# EAGLE library part AT24C256C-MAHL-T (library naiLED_eagle)
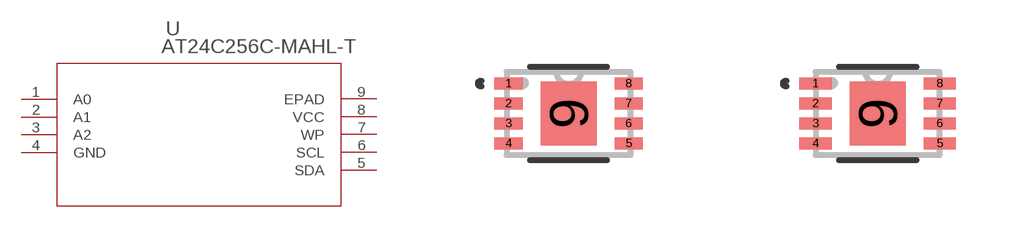
[diagram p3: symbol with the pads of 8MA2; footprints 8MA2, 8MA2-M]

Designator prefix U

## AT24C256C-MAHL-T (MANUFACTURER_PART_NUMBER: at24c256cmahlt; VENDOR: ATMEL)  [8MA2]
1  A0  in
2  A1  in
3  A2  in
4  GND  pwr
5  SDA  pas
6  SCL  in
7  WP  pas
8  VCC  pwr
9  EPAD  pas

## AT24C256C-MAHL-T8MA2-M (MANUFACTURER_PART_NUMBER: at24c256cmahlt; VENDOR: ATMEL)  [8MA2-M]
Pads as for 8MA2

## AT24C256C-MAHL-T8MA2-L (MANUFACTURER_PART_NUMBER: at24c256cmahlt; VENDOR: ATMEL)  [8MA2-L]
Pads as for 8MA2

## Footprint 8MA2 (pad centres in mm)
smd 0.705 x 0.3: 1 -1.502,0.75; 2 -1.502,0.25; 3 -1.502,-0.25; 4 -1.502,-0.75; 5 1.502,-0.75; 6 1.502,-0.25; 7 1.502,0.25; 8 1.502,0.75
smd 1.4 x 1.6: 9 0,0

## Footprint 8MA2-M (pad centres in mm)
smd 0.806 x 0.3: 1 -1.553,0.75; 2 -1.553,0.25; 3 -1.553,-0.25; 4 -1.553,-0.75; 5 1.553,-0.75; 6 1.553,-0.25; 7 1.553,0.25; 8 1.553,0.75
smd 1.4 x 1.6: 9 0,0

## Footprint 8MA2-L (pad centres in mm)
smd 0.603 x 0.3: 1 -1.452,0.75; 2 -1.452,0.25; 3 -1.452,-0.25; 4 -1.452,-0.75; 5 1.452,-0.75; 6 1.452,-0.25; 7 1.452,0.25; 8 1.452,0.75
smd 1.4 x 1.6: 9 0,0